# EAGLE library part MY-STUFF_AP7332-3333W6-7 (library OSO-BOOK-C3-00)
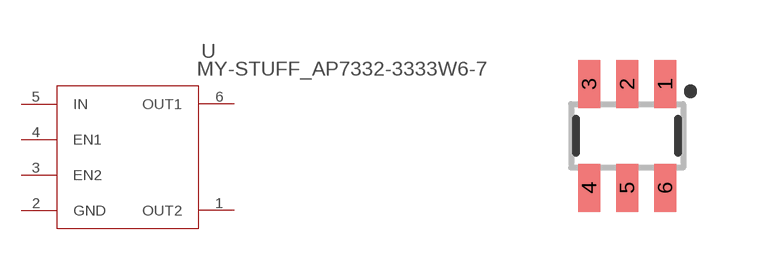
[diagram p2: symbol with the pads of MY-STUFF_SOT23-6; footprint MY-STUFF_SOT23-6]

Designator prefix U

## MY-STUFF_AP7332-3333W6-7SOT23 (BUILT_BY: EMA_UL_Team; MANUFACTURER_PART_NUMBER: AP7332-3333W6-7; SOURCELIBRARY: DIODESINC_2_2015-08-18; VENDOR: Diodes Inc)  [MY-STUFF_SOT23-6]
1  OUT2  out
2  GND  pwr
3  EN2  in
4  EN1  in
5  IN  in
6  OUT1  out

## Footprint MY-STUFF_SOT23-6 (pad centres in mm)
SOT23-6 Specifications: Pin count: 6 Example device(s): MCP4725
smd 0.55 x 1.2: 1 0.95,1.3; 2 0,1.3; 3 -0.95,1.3; 4 -0.95,-1.3; 5 0,-1.3; 6 0.95,-1.3